# Altium schematic symbol library LPS22HB.SchLib: 1 symbol
Pins are listed as number, name and electrical type; pins without a type are passive.

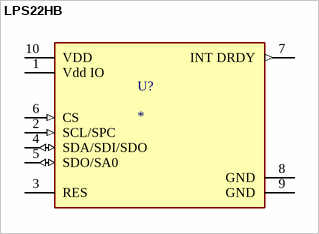
[diagram p0: symbol LPS22HB]

## LPS22HB
designator U?
MEMS nano pressure sensor: 260-1260 hPa absolute digital output barometer
footprint LPS22HB
pins: 1 Vdd IO (power), 2 SCL/SPC (in), 3 RES, 4 SDA/SDI/SDO (io), 5 SDO/SA0 (io), 6 CS (in), 7 INT DRDY (out), 8 GND (power), 9 GND (power), 10 VDD (power)